# Altium footprint library miscellaneous.PcbLib: 3 footprints
Each footprint in its own frame and in the unit in brackets; x right, y up, seen from the top. Pads: shape width x height; smd on the part's side, far side on the other; paste and mask are expansions set on the pad; w line width, h text height; cw(c..) or ccw(c..) is an arc to the next point about the centre after c.
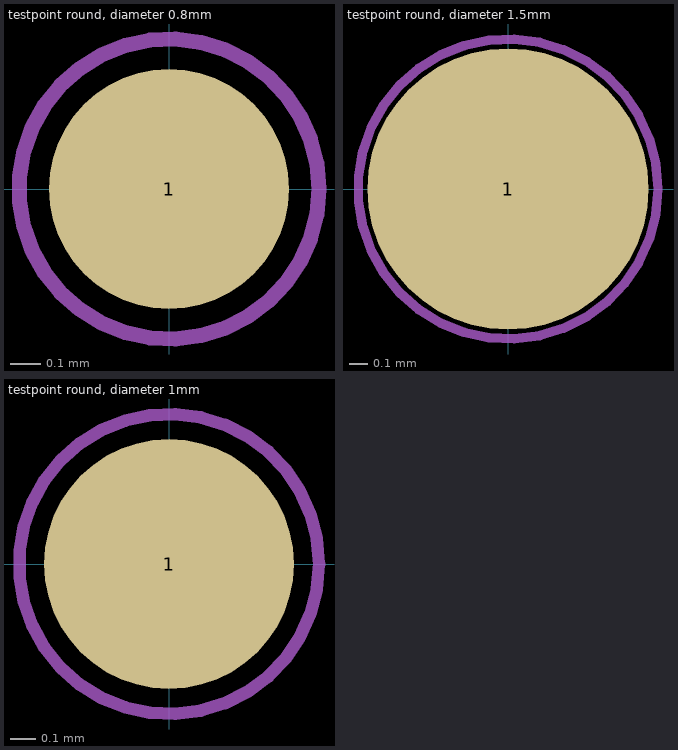
[diagram p0: the footprints below, top view; thin cyan lines are the x and y axes]

## testpoint round, diameter 0.8mm [mm]
pads (1):
  round 0.8 smd: 1(0,0)
Top Assembly:
  circle w0.05: c0,0 r0.5

## testpoint round, diameter 1.5mm [mm]
pads (1):
  round 1.5 smd: 1(0,0)
Top Assembly:
  circle w0.05: c0,0 r0.8

## testpoint round, diameter 1mm [mm]
pads (1):
  round 1 smd: 1(0,0)
Top Assembly:
  circle w0.05: c0,0 r0.6